# Altium schematic symbol library CRCW08050000Z0EA.SchLib: 1 symbol
Pins are listed as number, name and electrical type; pins without a type are passive.

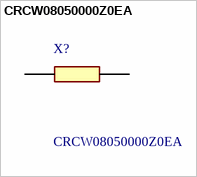
[diagram p0: symbol CRCW08050000Z0EA]

## CRCW08050000Z0EA
designator X?
CRCW0805 Surface Mount Resistor, 0R0 Vishay CRCW Series Thick Film Surface Mount Resistor 0805 Case 0 1% 0.1W; Geometry.Height: 0.5mm; Mouser Part Number: 71-CRCW0805-0-E3; Mouser Price/Stock: https://www.mouser.co.uk/ProductDetail/Vishay-Dale/CRCW08050000Z0EA?qs=waxnFHLl2hB4NcTp6tAQPA%3D%3D; Manufacturer_Name: Vishay; Manufacturer_Part_Number: CRCW08050000Z0EA; Datasheet Link: http://www.vishay.com/docs/20035/dcrcwe3.pdf
footprint RESC2012X50N
pins: 1, 2